# Altium footprint library Power_Distribution_Board_PcbLib.PcbLib: 26 footprints (part 1 of 2)
Each footprint in its own frame and in the unit in brackets; x right, y up, seen from the top. Pads: shape width x height; smd on the part's side, far side on the other; paste and mask are expansions set on the pad; w line width, h text height; cw(c..) or ccw(c..) is an arc to the next point about the centre after c.
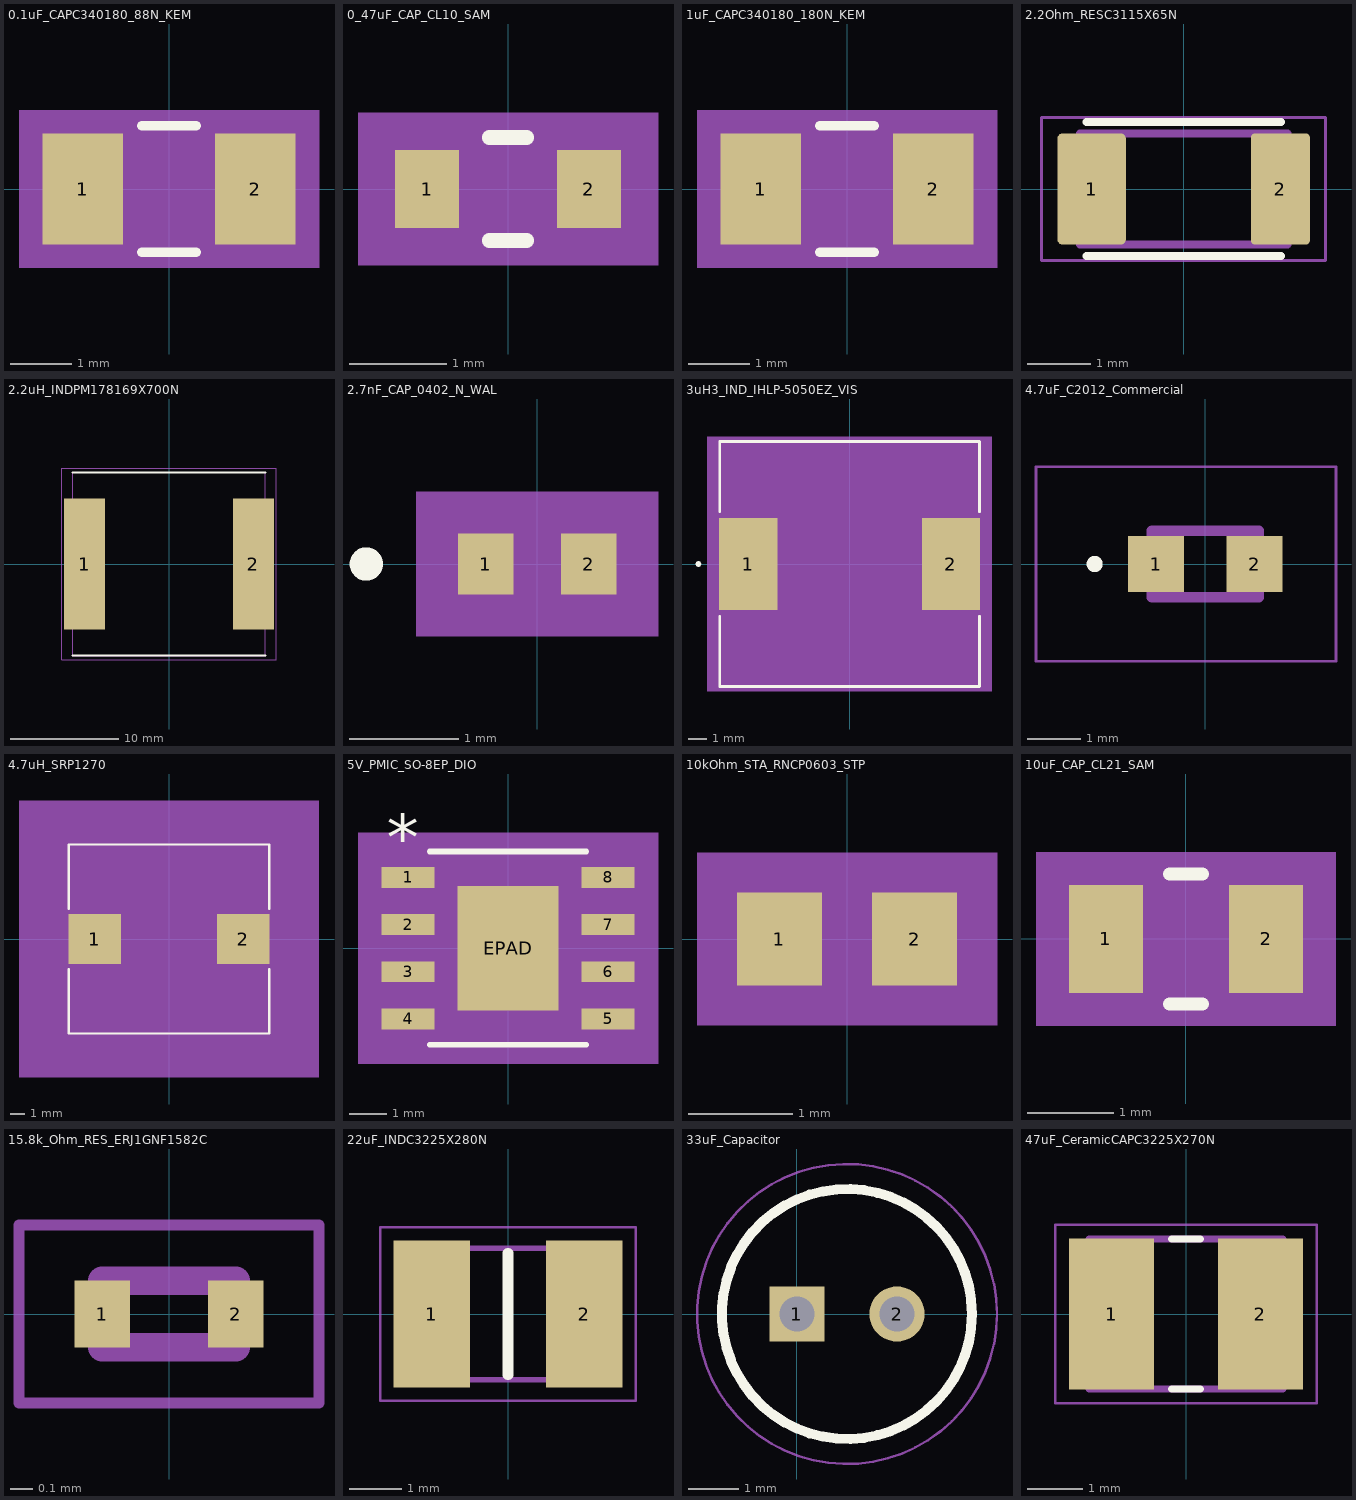
[diagram p0: the footprints below, top view; thin cyan lines are the x and y axes]

## 0.1uF_CAPC340180_88N_KEM [mm]
pads (2):
  rect 1.306x1.8 smd paste+0 mask+0: 1(-1.403,0) 2(1.403,0)
Top Overlay:
  lines w0.152: -0.442,-1.027 0.442,-1.027 ; -0.442,1.027 0.442,1.027
Mechanical 5:
  region: 2.437,-1.281 -2.437,-1.281 -2.437,1.281 2.437,1.281
Mechanical 13:
  lines w0.025: -1.7,-0.9 -1.7,0.9 ; -1.7,-0.9 1.7,-0.9 ; -1.7,-0.9 -0.95,-0.9 -0.95,0.9 -1.7,0.9 ; -1.7,-0.9 -1.7,0.9 ; -1.7,0.9 1.7,0.9 ; 1.7,-0.9 1.7,0.9 ; 1.7,-0.9 1.7,0.9 ; 1.7,-0.9 0.95,-0.9 0.95,0.9 1.7,0.9
Mechanical 15:
  region: 2.31,-1.154 -2.31,-1.154 -2.31,1.154 2.31,1.154
  lines w0.152: -2.31,-1.154 2.31,-1.154 2.31,1.154 -2.31,1.154 -2.31,-1.154
3D body "CAPC340180_88N_KEM.step": height 0.88, standoff 0, extent -1.7,-0.9 1.7,0.9

## 0_47uF_CAP_CL10_SAM [mm]
pads (2):
  rect 0.656x0.8 smd paste+0 mask+0: 1(-0.828,0) 2(0.828,0)
Top Overlay:
  lines w0.152: -0.192,-0.527 0.192,-0.527 ; -0.192,0.527 0.192,0.527
Mechanical 5:
  region: 1.537,-0.781 -1.537,-0.781 -1.537,0.781 1.537,0.781
Mechanical 13:
  lines w0.025: -0.8,-0.4 -0.8,0.4 ; -0.8,-0.4 0.8,-0.4 ; -0.8,-0.4 -0.5,-0.4 -0.5,0.4 -0.8,0.4 ; -0.8,-0.4 -0.8,0.4 ; -0.8,0.4 0.8,0.4 ; 0.8,-0.4 0.8,0.4 ; 0.8,-0.4 0.8,0.4 ; 0.8,-0.4 0.5,-0.4 0.5,0.4 0.8,0.4
Mechanical 15:
  region: 1.41,-0.654 -1.41,-0.654 -1.41,0.654 1.41,0.654
  lines w0.152: -1.41,-0.654 1.41,-0.654 1.41,0.654 -1.41,0.654 -1.41,-0.654
3D body "CAP_CL10_SAM.step": height 0.9, standoff 0, extent -0.8,-0.4 0.8,0.4

## 1uF_CAPC340180_180N_KEM [mm]
pads (2):
  rect 1.306x1.8 smd paste+0 mask+0: 1(-1.403,0) 2(1.403,0)
Top Overlay:
  lines w0.152: -0.442,-1.027 0.442,-1.027 ; -0.442,1.027 0.442,1.027
Mechanical 5:
  region: 2.437,-1.281 -2.437,-1.281 -2.437,1.281 2.437,1.281
Mechanical 13:
  lines w0.025: -1.7,-0.9 -1.7,0.9 ; -1.7,-0.9 -0.95,-0.9 -0.95,0.9 -1.7,0.9 ; -1.7,-0.9 1.7,-0.9 ; -1.7,-0.9 -1.7,0.9 ; -1.7,0.9 1.7,0.9 ; 1.7,-0.9 0.95,-0.9 0.95,0.9 1.7,0.9 ; 1.7,-0.9 1.7,0.9 ; 1.7,-0.9 1.7,0.9
Mechanical 15:
  region: 2.31,-1.154 -2.31,-1.154 -2.31,1.154 2.31,1.154
  lines w0.152: -2.31,-1.154 -2.31,1.154 2.31,1.154 2.31,-1.154 -2.31,-1.154
3D body "CAPC340180_180N_KEM.step": height 1.8, standoff 0, extent -1.7,-0.9 1.7,0.9

## 2.2Ohm_RESC3115X65N [mm]
pads (2):
  rrect14% 1.09x1.77 smd: 1(-1.465,0)
  rrect14% 0.94x1.77 smd: 2(1.54,0)
Top Overlay:
  lines w0.127: -1.55,-1.065 1.55,-1.065 ; -1.55,1.065 1.55,1.065
Mechanical 13:
  lines w0.127: -1.65,-0.88 -1.65,0.88 1.65,0.88 1.65,-0.88 -1.65,-0.88
Mechanical 15:
  lines w0.05: -2.26,-1.14 -2.26,1.14 2.26,1.14 2.26,-1.14 -2.26,-1.14

## 2.2uH_INDPM178169X700N [mm]
pads (2):
  rect 3.75x12.1 smd: 1(-7.8,0) 2(7.8,0)
Top Overlay:
  lines w0.2: -8.9,-8.45 8.9,-8.45 ; -8.9,8.45 8.9,8.45
Mechanical 13:
  lines w0.1: -8.9,-8.45 -8.9,8.45 8.9,8.45 8.9,-8.45 -8.9,-8.45
Mechanical 15:
  lines w0.05: -9.925,-8.85 -9.925,8.85 9.925,8.85 9.925,-8.85 -9.925,-8.85
3D body "SRP1770C-2R2M.stp": height 7, standoff 0, extent -8.9,-8.45 8.9,8.45

## 2.7nF_CAP_0402_N_WAL [mil]
pads (2):
  rect 20x22 smd paste+0 mask+0: 1(-18.5,0) 2(18.5,0)
Top Overlay:
  circle w6: c-61.5,0 r3
Mechanical 5:
  region: 43.5,-26 -43.5,-26 -43.5,26 43.5,26
Mechanical 13:
  circle w0: c-10.5,0 r3
  lines w1: -20.5,-11 -20.5,11 ; -20.5,-11 -8.5,-11 -8.5,11 -20.5,11 ; -20.5,-11 20.5,-11 ; -20.5,-11 -20.5,11 ; -20.5,11 20.5,11 ; 20.5,-11 8.5,-11 8.5,11 20.5,11 ; 20.5,-11 20.5,11 ; 20.5,-11 20.5,11
Mechanical 15:
  region: 34.5,-17 -34.5,-17 -34.5,17 34.5,17
  lines w6: -34.5,-17 -34.5,17 34.5,17 34.5,-17 -34.5,-17
3D body "CAP_0402_N_WAL.step": height 22.48, standoff 0, extent -20.51,-10.98 20.51,10.98

## 3uH3_IND_IHLP-5050EZ_VIS [mil]
pads (2):
  rect 123x195 smd paste+0 mask+0: 1(-214.5,0) 2(214.5,0)
Top Overlay:
  circle w6: c-320,0 r3
  lines w6: -275,-110.6 -275,-259 275,-259 275,-110.6 ; -275,110.6 -275,259 275,259 275,110.6
Mechanical 5:
  region: 301,-269 -301,-269 -301,269 301,269
Mechanical 13:
  circle w0: c-250,0 r3
  lines w1: -270,-254 -270,254 270,254 270,-254 -270,-254
Mechanical 15:
  region: -280,-107.5 -286,-107.5 -286,107.5 -280,107.5 -280,264 280,264 280,107.5 286,107.5 286,-107.5 280,-107.5 280,-264 -280,-264
  lines w6: -286,-107.5 -280,-107.5 -280,-264 280,-264 280,-107.5 286,-107.5 286,107.5 280,107.5 280,264 -280,264 -280,107.5 -286,107.5 -286,-107.5
3D body "IND_IHLP-5050EZ_VIS.step": height 199.02, standoff 0, extent -270,-254.02 270,254.02

## 4.7uF_C2012_Commercial [mm]
pads (2):
  rect 1.05x1.05 smd: 1(-0.925,0) 2(0.925,0)
Top Overlay:
  circle w0.2: c-2.075,0 r0.05
Mechanical 13:
  lines w0.2: -1,-0.625 1,-0.625 1,0.625 -1,0.625 -1,-0.625
Mechanical 15:
  lines w0.05: -3.175,-1.825 2.45,-1.825 2.45,1.825 -3.175,1.825 -3.175,-1.825
3D body "C2012X5R1H475K125AB.stp": height 1.25, standoff 0, extent -0.96,-0.8 1.04,0.8

## 4.7uH_SRP1270 [mil]
pads (2):
  rect 144x138 smd paste+0 mask+0: 1(-203.5,0) 2(203.5,0)
Top Overlay:
  lines w6: -274.5,-82.1 -274.5,-259 274.5,-259 274.5,-82.1 ; -274.5,82.1 -274.5,259 274.5,259 274.5,82.1
Mechanical 5:
  region: 410.5,-379 -410.5,-379 -410.5,379 410.5,379
Mechanical 13:
  lines w1: -269.5,-254 269.5,-254 269.5,254 -269.5,254 -269.5,-254
Mechanical 15:
  region: -279.5,-79 -285.5,-79 -285.5,79 -279.5,79 -279.5,264 279.5,264 279.5,79 285.5,79 285.5,-79 279.5,-79 279.5,-264 -279.5,-264
  lines w6: -285.5,-79 -285.5,79 -279.5,79 -279.5,264 279.5,264 279.5,79 285.5,79 285.5,-79 279.5,-79 279.5,-264 -279.5,-264 -279.5,-79 -285.5,-79
3D body "IND_BOURNS_SRP1270.step": height 277.99, standoff 0, extent -269.49,-254.02 269.49,254.02

## 5V_PMIC_SO-8EP_DIO [mil]
pads (9):
  rect 56x22 smd paste+0 mask+0: 1(-106,75) 2(-106,25) 3(-106,-25) 4(-106,-75) 5(106,-75) 6(106,-25) 7(106,25) 8(106,75)
  rect 107x132 smd paste-65.5 mask+0: EPAD(0,0)
Top Overlay:
  lines w6: -83,-102.5 83,-102.5 ; -83,102.5 83,102.5
  text "*" at -128.5,92 h50
Top Paste:
  region: -3.94,62.06 -49.56,62.06 -49.56,3.94 -3.94,3.94
  region: -3.94,-3.94 -49.56,-3.94 -49.56,-62.06 -3.94,-62.06
  region: 49.56,62.06 3.94,62.06 3.94,3.94 49.56,3.94
  region: 49.56,-3.94 3.94,-3.94 3.94,-62.06 49.56,-62.06
Mechanical 5:
  region: 159,-122.5 -159,-122.5 -159,122.5 159,122.5
Mechanical 13:
  lines w0: -12,97.5 ccw(c0,97.5) 12,97.5
  lines w1: -120,-85 -120,-65 -78,-65 -78,-85 -120,-85 ; -120,-35 -120,-15 -78,-15 -78,-35 -120,-35 ; -120,15 -120,35 -78,35 -78,15 -120,15 ; -120,65 -120,85 -78,85 -78,65 -120,65 ; -78,-97.5 78,-97.5 78,97.5 -78,97.5 -78,-97.5 ; 78,-85 78,-65 120,-65 120,-85 78,-85 ; 78,-35 78,-15 120,-15 120,-35 78,-35 ; 78,15 78,35 120,35 120,15 78,15 ; 78,65 78,85 120,85 120,65 78,65
  text "*" at -75.5,44.5 h50
Mechanical 15:
  region: -88,-96 -144,-96 -144,96 -88,96 -88,107.5 88,107.5 88,96 144,96 144,-96 88,-96 88,-107.5 -88,-107.5
  lines w6: -144,-96 -144,96 -88,96 -88,107.5 88,107.5 88,96 144,96 144,-96 88,-96 88,-107.5 -88,-107.5 -88,-96 -144,-96
3D body "SO-8EP_DIO.step": height 64.09, standoff -2.01, extent -120,-97.48 120,97.48

## 10kOhm_STA_RNCP0603_STP [mil]
pads (2):
  rect 32x35 smd paste+0 mask+0: 1(-25.5,0) 2(25.5,0)
Mechanical 5:
  region: 56.5,-32.5 -56.5,-32.5 -56.5,32.5 56.5,32.5
Mechanical 13:
  lines w1: -33.5,-17.5 -33.5,17.5 ; -33.5,-17.5 -9.5,-17.5 -9.5,17.5 -33.5,17.5 ; -33.5,-17.5 33.5,-17.5 ; -33.5,-17.5 -33.5,17.5 ; -33.5,17.5 33.5,17.5 ; 33.5,-17.5 9.5,-17.5 9.5,17.5 33.5,17.5 ; 33.5,-17.5 33.5,17.5 ; 33.5,-17.5 33.5,17.5
Mechanical 15:
  region: 51.5,-27.5 -51.5,-27.5 -51.5,27.5 51.5,27.5
  lines w6: -51.5,-27.5 -51.5,27.5 51.5,27.5 51.5,-27.5 -51.5,-27.5
3D body "STA_RNCP0603_STP.step": height 24.02, standoff 0, extent -33.5,-17.48 33.5,17.48

## 10uF_CAP_CL21_SAM [mm]
pads (2):
  rect 0.856x1.25 smd paste+0 mask+0: 1(-0.928,0) 2(0.928,0)
Top Overlay:
  lines w0.152: -0.192,-0.752 0.192,-0.752 ; -0.192,0.752 0.192,0.752
Mechanical 5:
  region: 1.737,-1.006 -1.737,-1.006 -1.737,1.006 1.737,1.006
Mechanical 13:
  lines w0.025: -1,-0.625 -1,0.625 ; -1,-0.625 1,-0.625 ; -1,-0.625 -0.5,-0.625 -0.5,0.625 -1,0.625 ; -1,-0.625 -1,0.625 ; -1,0.625 1,0.625 ; 1,-0.625 1,0.625 ; 1,-0.625 1,0.625 ; 1,-0.625 0.5,-0.625 0.5,0.625 1,0.625
Mechanical 15:
  region: 1.61,-0.879 -1.61,-0.879 -1.61,0.879 1.61,0.879
  lines w0.152: -1.61,-0.879 1.61,-0.879 1.61,0.879 -1.61,0.879 -1.61,-0.879
3D body "CAP_CL21_SAM.step": height 1.35, standoff 0, extent -1,-0.625 1,0.625

## 15.8k_Ohm_RES_ERJ1GNF1582C [mm]
pads (2):
  rect 0.25x0.3 smd: 1(-0.3,0) 2(0.3,0)
Mechanical 13:
  lines w0.127: -0.3,-0.15 0.3,-0.15 0.3,0.15 -0.3,0.15 -0.3,-0.15
Mechanical 15:
  lines w0.05: -0.675,-0.4 0.675,-0.4 0.675,0.4 -0.675,0.4 -0.675,-0.4

## 22uF_INDC3225X280N [mm]
pads (2):
  rect 1.45x2.8 smd: 1(-1.45,0) 2(1.45,0)
Top Overlay:
  lines w0.2: 0,-1.15 0,1.15
Mechanical 13:
  lines w0.1: -1.6,-1.25 -1.6,1.25 1.6,1.25 1.6,-1.25 -1.6,-1.25
Mechanical 15:
  lines w0.05: -2.425,-1.65 -2.425,1.65 2.425,1.65 2.425,-1.65 -2.425,-1.65
3D body "CL32B226KOJNNNE.stp": height 2.8, standoff 0, extent -1.6,-1.25 1.6,1.25

## 33uF_Capacitor [mm]
pads (2):
  rect 1.1x1.1 hole 0.7: 1(0,0)
  round 1.1 hole 0.7: 2(2,0)
Top Overlay:
  circle w0.2: c1,0 r2.5
Mechanical 13:
  circle w0.1: c1,0 r2.5
Mechanical 15:
  circle w0.05: c1,0 r3
3D body "ESH336M035AC3AA.stp": height 12.5, standoff -20, extent -1.75,-2.75 3.75,2.75

## 47uF_CeramicCAPC3225X270N [mm]
pads (2):
  rect 1.53x2.72 smd: 1(-1.341,0) 2(1.341,0)
Top Overlay:
  lines w0.127: -0.26,-1.35 0.26,-1.35 ; -0.26,1.35 0.26,1.35
Mechanical 13:
  lines w0.127: -1.75,-1.35 -1.75,1.35 1.75,1.35 1.75,-1.35 -1.75,-1.35
Mechanical 15:
  lines w0.05: -2.355,-1.608 -2.355,1.608 2.355,1.608 2.355,-1.608 -2.355,-1.608
3D body "step_temp.STEP": height 2.7, standoff 0, extent -1.6,-1.25 1.6,1.25